# EAGLE library part 64901621022 (library Wuerth_Elektronik_eiCan_Wire_to_Board_Connectors)
WR-MPC4-4.20mm Male Dual Row Angled Header with Mounting Flanges for Screw-in Retention,16 pins=>Code : Con_WTB_MPC4_2_PCB_64901621022 <http://katalog.we-online.de/media/thumbs2/eican/thb_Con_WTB_MPC4_2_PCB_6490xx21022_pf2.jpg> Details see: http://katalog.we-online.de/en/em/649_0xx_210_22 Created 2014-06-06, Karrer Zheng 2014 (C) Würth Elektronik
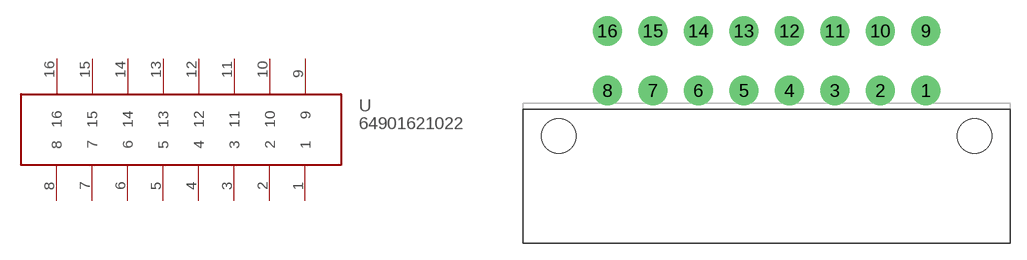
[diagram p300: symbol with the pads of 64901621022; footprint 64901621022]

Designator prefix -

## 64901621022  [64901621022]
1  1
2  2
3  3
4  4
5  5
6  6
7  7
8  8
9  9
10  10
11  11
12  12
13  13
14  14
15  15
16  16

## Footprint 64901621022 (pad centres in mm)
WR-MPC4-4.20mm Male Dual Row Angled Header with Mounting Flanges for Screw-in Retention,16 pins
drill 1.8: 1 15.175,-2.75; 2 10.975,-2.75; 3 6.775,-2.75; 4 2.575,-2.75; 5 -1.625,-2.75; 6 -5.825,-2.75; 7 -10.025,-2.75; 8 -14.225,-2.75; 9 15.175,2.75; 10 10.975,2.75; 11 6.775,2.75; 12 2.575,2.75; 13 -1.625,2.75; 14 -5.825,2.75; 15 -10.025,2.75; 16 -14.225,2.75
hole 3.2 at -18.725,-6.95
hole 3.2 at 19.675,-6.95